# EAGLE library part MCP23008T-E/SO (library MCP23008)
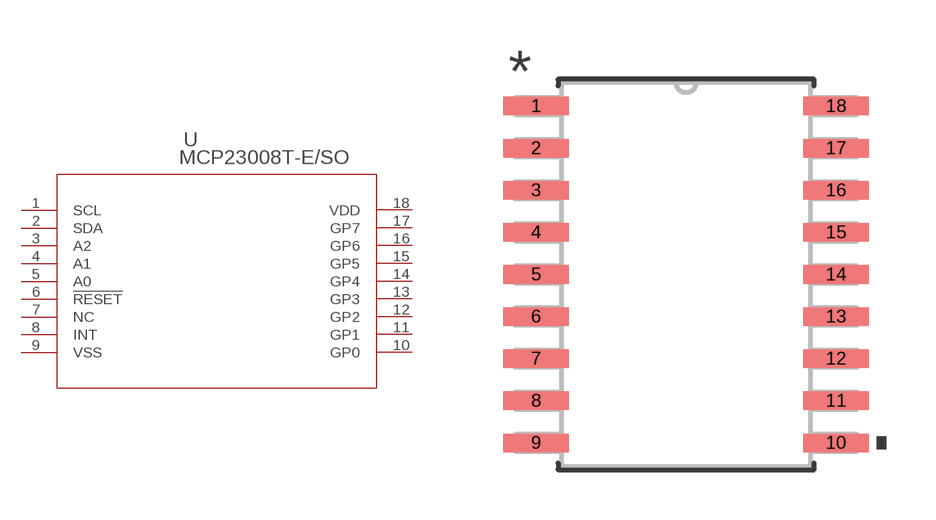
[diagram p0: symbol with the pads of SOIC18-W_MC_MCH; footprint SOIC18-W_MC_MCH]

Designator prefix U

## MCP23008T-E/SO (BUILT_BY: EMA_UL_Team; MANUFACTURER_PART_NUMBER: MCP23008T-E/SO; SOURCELIBRARY: Microchip_2014-06-20; VENDOR: Microchip)  [SOIC18-W_MC_MCH]
1  SCL  pas
2  SDA  pas
3  A2  pas
4  A1  pas
5  A0  pas
6  !RESET  pas
7  NC  pas
8  INT  pas
9  VSS  pas
10  GP0  pas
11  GP1  pas
12  GP2  pas
13  GP3  pas
14  GP4  pas
15  GP5  pas
16  GP6  pas
17  GP7  pas
18  VDD  pas

## Footprint SOIC18-W_MC_MCH (pad centres in mm)
smd 1.981 x 0.559: 1 -4.521,5.08; 2 -4.521,3.81; 3 -4.521,2.54; 4 -4.521,1.27; 5 -4.521,0; 6 -4.521,-1.27; 7 -4.521,-2.54; 8 -4.521,-3.81; 9 -4.521,-5.08; 10 4.521,-5.08; 11 4.521,-3.81; 12 4.521,-2.54; 13 4.521,-1.27; 14 4.521,0; 15 4.521,1.27; 16 4.521,2.54; 17 4.521,3.81; 18 4.521,5.08